# EAGLE library part VN7E010AJTR (library 911_circuits)
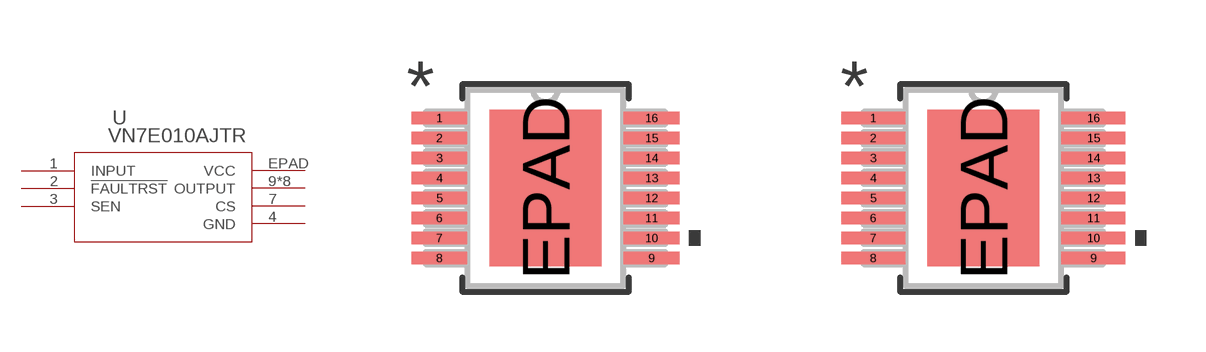
[diagram p4: symbol with the pads of SO_E010AJ_STM; footprints SO_E010AJ_STM, SO_E010AJ_STM-M]

Designator prefix U

## VN7E010AJTR (COPYRIGHT: Copyright (C) 2024 Ultra Librarian. All rights reserved.; MANUFACTURER_PART_NUMBER: VN7E010AJTR; MFR_NAME: STMicroelectronics)  [SO_E010AJ_STM]
1  INPUT  in
2  !FAULTRST  pas
3  SEN  pas
4  GND  pas
7  CS  pas
9  OUTPUT  out
10  OUTPUT  out
11  OUTPUT  out
12  OUTPUT  out
13  OUTPUT  out
14  OUTPUT  out
15  OUTPUT  out
16  OUTPUT  out
EPAD  VCC  pwr

## VN7E010AJTRSO_E010AJ_STM-M (COPYRIGHT: Copyright (C) 2024 Ultra Librarian. All rights reserved.; MANUFACTURER_PART_NUMBER: VN7E010AJTR; MFR_NAME: STMicroelectronics)  [SO_E010AJ_STM-M]
Pads as for SO_E010AJ_STM

## VN7E010AJTRSO_E010AJ_STM-L (COPYRIGHT: Copyright (C) 2024 Ultra Librarian. All rights reserved.; MANUFACTURER_PART_NUMBER: VN7E010AJTR; MFR_NAME: STMicroelectronics)  [SO_E010AJ_STM-L]
Pads as for SO_E010AJ_STM

## Footprint SO_E010AJ_STM (pad centres in mm)
smd 1.397 x 0.305: 1 -2.654,1.75; 2 -2.654,1.25; 3 -2.654,0.75; 4 -2.654,0.25; 5 -2.654,-0.25; 6 -2.654,-0.75; 7 -2.654,-1.25; 8 -2.654,-1.75; 9 2.654,-1.75; 10 2.654,-1.25; 11 2.654,-0.75; 12 2.654,-0.25; 13 2.654,0.25; 14 2.654,0.75; 15 2.654,1.25; 16 2.654,1.75
smd 2.794 x 3.912: EPAD 0,0

## Footprint SO_E010AJ_STM-M (pad centres in mm)
smd 1.6 x 0.305: 1 -2.756,1.75; 2 -2.756,1.25; 3 -2.756,0.75; 4 -2.756,0.25; 5 -2.756,-0.25; 6 -2.756,-0.75; 7 -2.756,-1.25; 8 -2.756,-1.75; 9 2.756,-1.75; 10 2.756,-1.25; 11 2.756,-0.75; 12 2.756,-0.25; 13 2.756,0.25; 14 2.756,0.75; 15 2.756,1.25; 16 2.756,1.75
smd 2.794 x 3.912: EPAD 0,0

## Footprint SO_E010AJ_STM-L (pad centres in mm)
smd 1.194 x 0.254: 1 -2.553,1.75; 2 -2.553,1.25; 3 -2.553,0.75; 4 -2.553,0.25; 5 -2.553,-0.25; 6 -2.553,-0.75; 7 -2.553,-1.25; 8 -2.553,-1.75; 9 2.553,-1.75; 10 2.553,-1.25; 11 2.553,-0.75; 12 2.553,-0.25; 13 2.553,0.25; 14 2.553,0.75; 15 2.553,1.25; 16 2.553,1.75
smd 2.794 x 3.912: EPAD 0,0